# EAGLE library part 88-PIN-HEADER (library 88-PIN-HEADER)
Headers & Wire Housings CGrid Bkwy Hdr DR Rt DR RtPn 15''SAu 4Ckt Source: Datasheet <https://www.molex.com/pdm_docs/sd/702871098_sd.pdf>
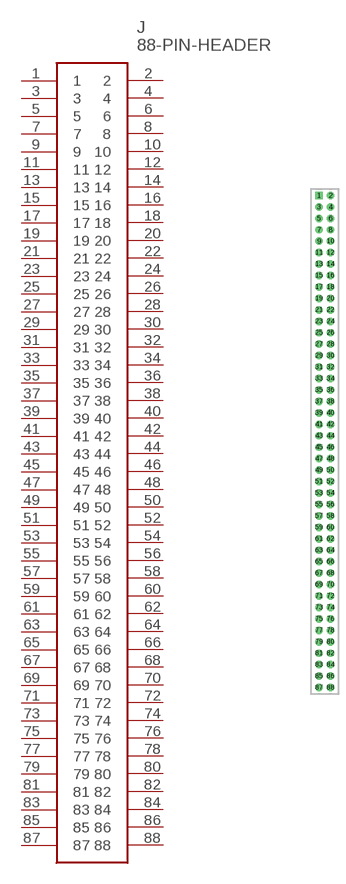
[diagram p0: symbol with the pads of 88-PIN-HEADER; footprint 88-PIN-HEADER]

Designator prefix J

## 88-PIN-HEADER (DESCRIPTION: Headers & Wire Housings CGrid Bkwy Hdr DR Rt DR RtPn 15''SAu 4Ckt; HEIGHT: 8.51mm; MANUFACTURER_NAME: Molex; MANUFACTURER_PART_NUMBER: 70287-1098; MOUSER_PART_NUMBER: 538-70287-1098; MOUSER_PRICE-STOCK: https://www.mouser.co.uk/ProductDetail/Molex/70287-1098?qs=kYQSPAH4sJyJ%2F7vCw3ffjg%3D%3D)  [88-PIN-HEADER]
1  1
2  2
3  3
4  4
5  5
6  6
7  7
8  8
9  9
10  10
11  11
12  12
13  13
14  14
15  15
16  16
17  17
18  18
19  19
20  20
21  21
22  22
23  23
24  24
25  25
26  26
27  27
28  28
29  29
30  30
31  31
32  32
33  33
34  34
35  35
36  36
37  37
38  38
39  39
40  40
41  41
42  42
43  43
44  44
45  45
46  46
47  47
48  48
49  49
50  50
51  51
52  52
53  53
54  54
55  55
56  56
57  57
58  58
59  59
60  60
61  61
62  62
63  63
64  64
65  65
66  66
67  67
68  68
69  69
70  70
71  71
72  72
73  73
74  74
75  75
76  76
77  77
78  78
79  79
80  80
81  81
82  82
83  83
84  84
85  85
86  86
87  87
88  88

## Footprint 88-PIN-HEADER (pad centres in mm)
70287-1098
drill 1.1 pad 1.65 square: 1 0,109.22
drill 1.1 pad 1.65: 2 2.54,109.22; 3 0,106.68; 4 2.54,106.68; 5 0,104.14; 6 2.54,104.14; 7 0,101.6; 8 2.54,101.6; 9 0,99.06; 10 2.54,99.06; 11 0,96.52; 12 2.54,96.52; 13 0,93.98; 14 2.54,93.98; 15 0,91.44; 16 2.54,91.44; 17 0,88.9; 18 2.54,88.9; 19 0,86.36; 20 2.54,86.36; 21 0,83.82; 22 2.54,83.82; 23 0,81.28; 24 2.54,81.28; 25 0,78.74; 26 2.54,78.74; 27 0,76.2; 28 2.54,76.2; 29 0,73.66; 30 2.54,73.66; 31 0,71.12; 32 2.54,71.12; 33 0,68.58; 34 2.54,68.58; 35 0,66.04; 36 2.54,66.04; 37 0,63.5; 38 2.54,63.5; 39 0,60.96; 40 2.54,60.96; 41 0,58.42; 42 2.54,58.42; 43 0,55.88; 44 2.54,55.88; 45 0,53.34; 46 2.54,53.34; 47 0,50.8; 48 2.54,50.8; 49 0,48.26; 50 2.54,48.26; 51 0,45.72; 52 2.54,45.72; 53 0,43.18; 54 2.54,43.18; 55 0,40.64; 56 2.54,40.64; 57 0,38.1; 58 2.54,38.1; 59 0,35.56; 60 2.54,35.56; 61 0,33.02; 62 2.54,33.02; 63 0,30.48; 64 2.54,30.48; 65 0,27.94; 66 2.54,27.94; 67 0,25.4; 68 2.54,25.4; 69 0,22.86; 70 2.54,22.86; 71 0,20.32; 72 2.54,20.32; 73 0,17.78; 74 2.54,17.78; 75 0,15.24; 76 2.54,15.24; 77 0,12.7; 78 2.54,12.7; 79 0,10.16; 80 2.54,10.16; 81 0,7.62; 82 2.54,7.62; 83 0,5.08; 84 2.54,5.08; 85 0,2.54; 86 2.54,2.54; 87 0,0; 88 2.54,0